# Altium footprint library 28Pins_Project_V1I1.PcbLib: 26 footprints (part 2 of 2)
Each footprint in its own frame and in the unit in brackets; x right, y up, seen from the top. Pads: shape width x height; smd on the part's side, far side on the other; paste and mask are expansions set on the pad; w line width, h text height; cw(c..) or ccw(c..) is an arc to the next point about the centre after c.
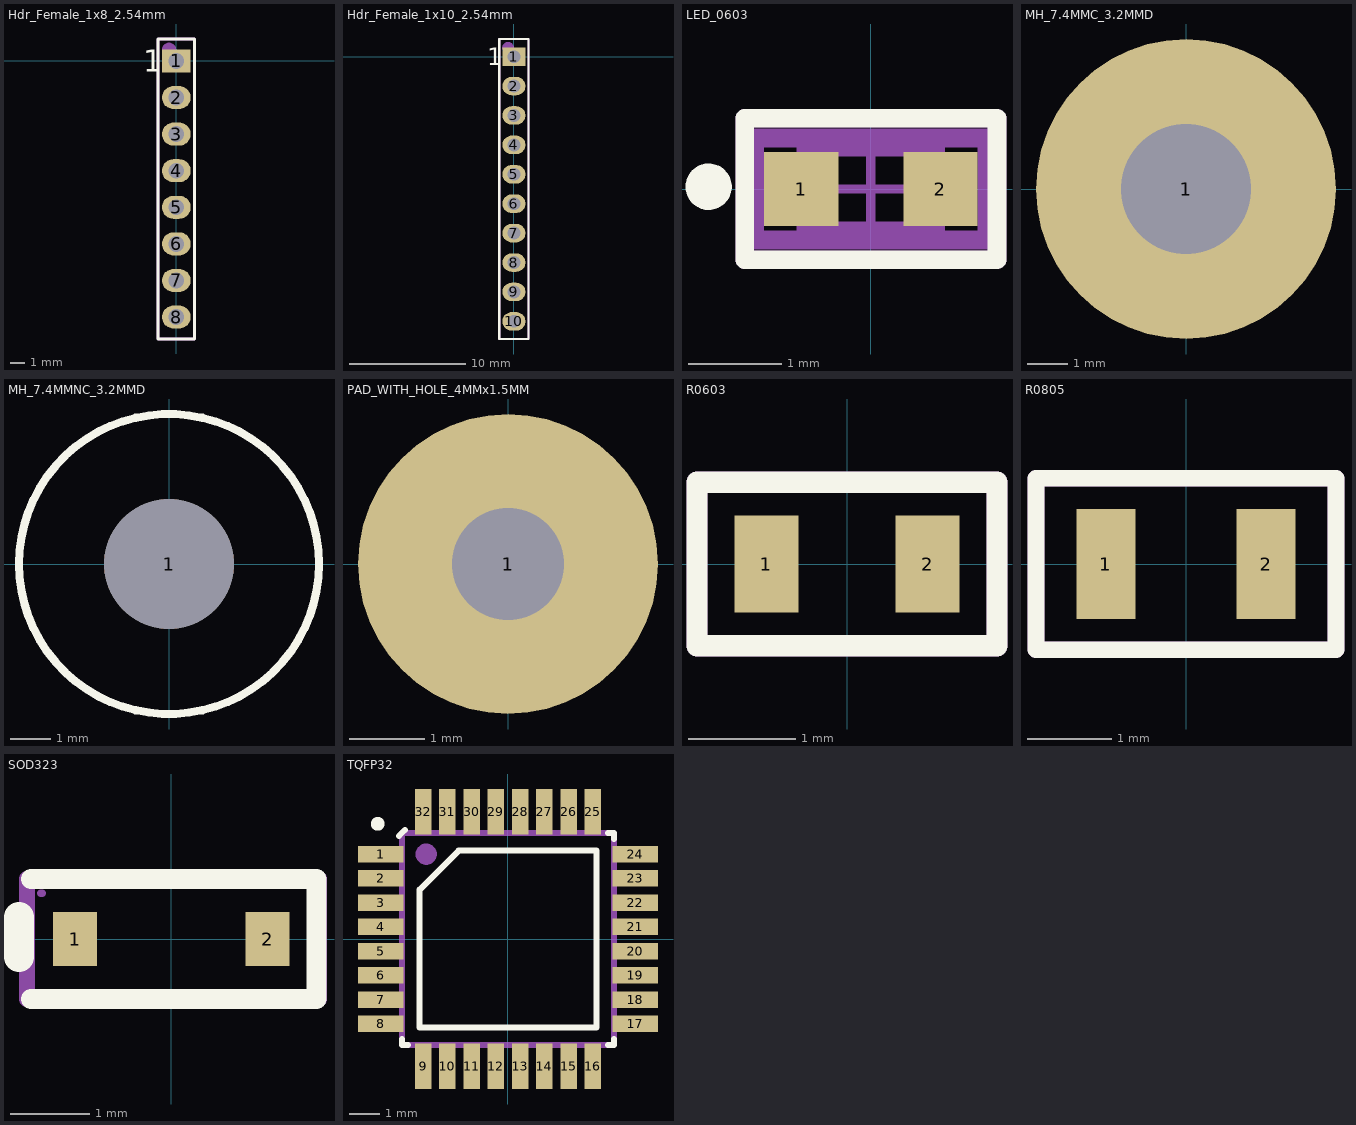
[diagram p1: the footprints below, top view; thin cyan lines are the x and y axes]

## Hdr_Female_1x8_2.54mm [mm]
pads (8):
  rect 2x1.6 hole 1.1: 1(0,0)
  oval 2x1.6 hole 1.1: 2(0,-2.54) 3(0,-5.08) 4(0,-7.62) 5(0,-10.16) 6(0,-12.7) 7(0,-15.24) 8(0,-17.78)
Top Overlay:
  lines w0.2: -1.27,-19.304 -0.508,-19.304 -0.318,-19.304 0.318,-19.304 0.635,-19.304 1.27,-19.304 1.27,1.524 -1.27,1.524 -1.27,-19.304
  text "1" at -2.286,-0.762 h1.52
Mechanical 29:
  circle w0.5: c-0.508,0.762 r0.254
  lines w0.2: -1.27,-19.304 1.27,-19.304 1.27,1.524 -1.27,1.524 -1.27,-19.304
  text ".Designator" at 0.508,-15.748 h1.52
3D body "M20-7820842--3DModel-STEP-56544.STEP": height 8.31, standoff -3.19, extent -1.23,-19.25 1.27,1.47

## Hdr_Female_1x10_2.54mm [mm]
pads (10):
  rect 2x1.6 hole 1.1: 1(0,0)
  oval 2x1.6 hole 1.1: 2(0,-2.54) 3(0,-5.08) 4(0,-7.62) 5(0,-10.16) 6(0,-12.7) 7(0,-15.24) 8(0,-17.78) 9(0,-20.32) 10(0,-22.86)
Top Overlay:
  lines w0.2: -1.27,-24.384 1.27,-24.384 1.27,1.524 -1.27,1.524 -1.27,-23.622 -1.27,-24.384
  text "1" at -2.286,-0.762 h1.52
Mechanical 29:
  circle w0.5: c-0.508,0.762 r0.254
  lines w0.2: -1.27,-24.384 -1.27,1.524 1.27,1.524 1.27,-24.384 -1.27,-24.384
  text ".Designator" at 0.508,-15.748 h1.52
3D body "m20-7821046.stp": height 8.51, standoff -2.99, extent -1.25,-24.33 1.25,1.47

## LED_0603 [mm]
pads (2):
  rect 0.8x0.8 smd paste-1000 mask+0: 1(-0.75,0) 2(0.75,0)
Top Overlay:
  circle w0.25: c-1.75,0.025 r0.125
  lines w0.2: -1.36,-0.762 1.36,-0.762 1.36,0.762 -1.36,0.762 -1.36,-0.762
Top Paste:
  rectangle: -1.1,-0.35 -0.5,0.35
  rectangle: 0.5,-0.35 1.1,0.35
Mechanical 5:
  lines w0.2: -1.25,-0.55 1.25,-0.55 1.25,0.55 -1.25,0.55 -1.25,-0.55
  text ".Designator" at 0,0.188 h1
Mechanical 13:
  lines w0.2: -0.7,-0.45 0.7,-0.45 0.7,0.45 -0.7,0.45 -0.7,-0.45
Mechanical 15:
  lines w0.2: -1.25,-0.55 1.25,-0.55 1.25,0.55 -1.25,0.55 -1.25,-0.55
Mechanical 16:
  lines w0.1: -0.5,0 0.5,0 ; 0,-0.5 0,0.5
Mechanical 29:
  lines w0.2: -1.36,-0.762 1.36,-0.762 1.36,0.762 -1.36,0.762 -1.36,-0.762
  text ".Designator" at 0.635,-0.212 h0.51
3D body "Diode_OSRAM_Opto_Semiconductors_LO_L29K-H2K1-24-Z_Q65110A1747_eec.STEP": height 0.67, standoff 0, extent -0.762,-0.401 0.938,0.401

## MH_7.4MMC_3.2MMD [mm]
pads (1):
  round 7.4 hole 3.2: 1(0,0)

## MH_7.4MMNC_3.2MMD [mm]
pads (1):
  round 3.2 hole 3.2: 1(0,0)
Top Overlay:
  circle w0.2: c0,0 r3.7

## PAD_WITH_HOLE_4MMx1.5MM [mm]
pads (1):
  round 4 hole 1.5: 1(0,0)

## R0603 [mm]
pads (2):
  rect 0.6x0.9 smd: 1(-0.75,0) 2(0.75,0)
Top Overlay:
  lines w0.2: -1.397,-0.762 1.397,-0.762 1.397,0.762 -1.397,0.762 -1.397,-0.762
Mechanical 29:
  lines w0.2: -1.397,-0.762 1.397,-0.762 1.397,0.762 -1.397,0.762 -1.397,-0.762
  text ".Designator" at -0.66,-0.237 h0.51
3D body "CG0603MLC-05E.stp": height 0.56, standoff 0.01, extent -0.762,-0.4 0.838,0.4

## R0805 [mm]
pads (2):
  rect 0.7x1.3 smd: 1(-0.95,0) 2(0.95,0)
Top Overlay:
  lines w0.2: -1.778,-1.016 -1.778,1.016 1.778,1.016 1.778,-1.016 -1.778,-1.016
Mechanical 29:
  lines w0.2: -1.778,-1.016 -1.778,1.016 1.778,1.016 1.778,-1.016 -1.778,-1.016
3D body "User Library-Chip Resistor2.STEP": height 0.71, standoff 0.01, extent -1,-0.6 1,0.6

## SOD323 [mil]
pads (2):
  rect 22x27 smd: 1(-48,0) 2(48,0)
Top Overlay:
  lines w10: -70,-30 72.44,-30 72.44,30 -70,30
  lines w14.87: -76,-9 -76,11
Mechanical 29:
  lines w3.94: -64.96,22.83 -64.57,22.83
  lines w7.87: -72.05,-30 73.62,-30 73.62,30 -72.05,30 -72.05,-30
3D body "User Library-SOD323.step": height 39.48, standoff 0.5, extent -48.21,-25 50.22,24.22

## TQFP32 [mm]
pads (32):
  rect 1.5x0.55 smd mask+0.06: 1(-4.2,2.8) 2(-4.2,2) 3(-4.2,1.2) 4(-4.2,0.4) 5(-4.2,-0.4) 6(-4.2,-1.2) 7(-4.2,-2) 8(-4.2,-2.8) 17(4.2,-2.8) 18(4.2,-2) 19(4.2,-1.2) 20(4.2,-0.4) 21(4.2,0.4) 22(4.2,1.2) 23(4.2,2) 24(4.2,2.8)
  rect 0.55x1.5 smd mask+0.06: 9(-2.8,-4.2) 10(-2,-4.2) 11(-1.2,-4.2) 12(-0.4,-4.2) 13(0.4,-4.2) 14(1.2,-4.2) 15(2,-4.2) 16(2.8,-4.2) 25(2.8,4.2) 26(2,4.2) 27(1.2,4.2) 28(0.4,4.2) 29(-0.4,4.2) 30(-1.2,4.2) 31(-2,4.2) 32(-2.8,4.2)
Top Overlay:
  circle w0.254: c-4.3,3.8 r0.1
  lines w0.2: -3.6,3.4 -3.4,3.6 ; 3.3,-3.5 3.5,-3.5 3.5,-3.3 ; 3.3,3.5 3.5,3.5 3.5,3.3 ; -3.5,-3.5 -3.3,-3.5 -3.5,-3.5 ; -3.5,-3.5 -3.5,-3.3 -3.5,-3.5 ; -2.915,-2.915 -2.915,1.63 -1.63,2.915 2.915,2.915 2.915,-2.915 -2.915,-2.915
Mechanical 29:
  circle w0.5: c-2.7,2.8 r0.1
  lines w0.2: -3.5,-3.2 -3.5,3.5 ; -3.4,3.5 3.3,3.5 ; -3.3,-3.5 3.3,-3.5 ; 3.5,-3.3 3.5,3.3
  text ".Designator" at -2.946,1.062 h1.52
3D body "User Library-tqfp32.step": height 1.2, standoff 0, extent -4.549,-4.6 4.649,4.599